# Altium footprint library Footprint_0806(2016).PcbLib: 1 footprints
Each footprint in its own frame and in the unit in brackets; x right, y up, seen from the top. Pads: shape width x height; smd on the part's side, far side on the other; paste and mask are expansions set on the pad; w line width, h text height; cw(c..) or ccw(c..) is an arc to the next point about the centre after c.
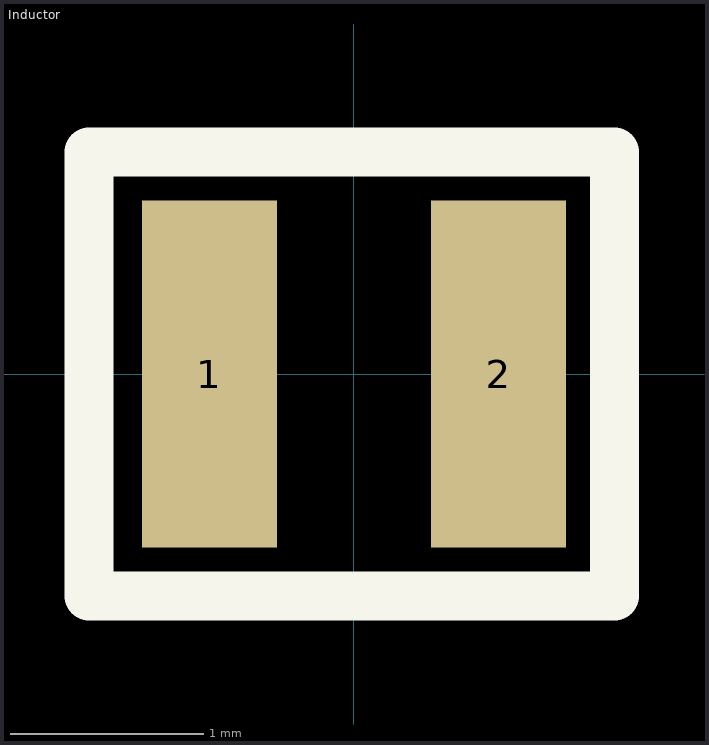
[diagram p0: the footprint, top view; thin cyan lines are the x and y axes]

## Inductor [mm]
pads (2):
  rect 0.7x1.8 smd: 1(-0.75,0) 2(0.75,0)
Top Overlay:
  lines w0.254: -1.375,-1.15 1.35,-1.15 1.35,1.15 -1.375,1.15 -1.375,-1.15